# EAGLE library part TSW-D-76 (library con-samtec-tsw)
HEADER
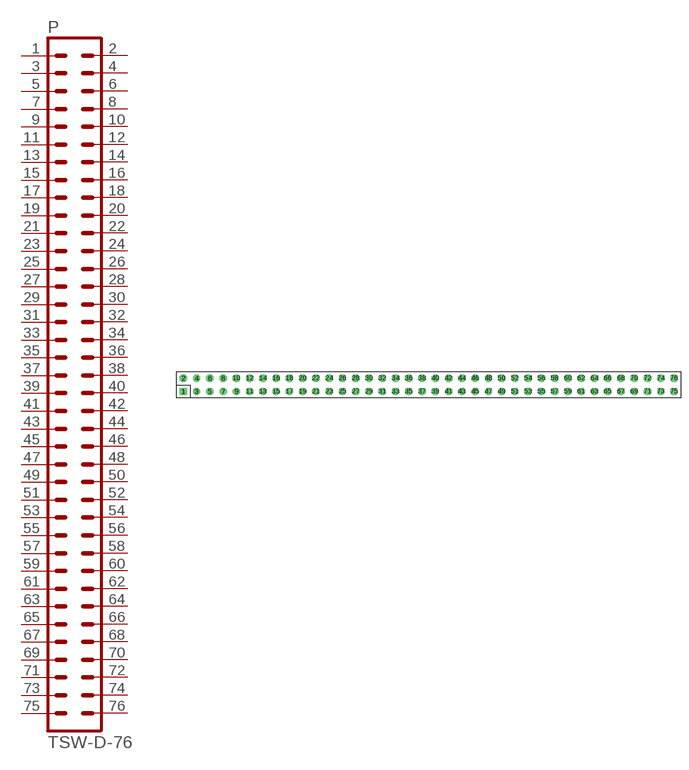
[diagram p125: symbol with the pads of TSW-D-76; footprint TSW-D-76]

Designator prefix P

## TSW-D-76  [TSW-D-76]
1  1  pas
2  2  pas
3  3  pas
4  4  pas
5  5  pas
6  6  pas
7  7  pas
8  8  pas
9  9  pas
10  10  pas
11  11  pas
12  12  pas
13  13  pas
14  14  pas
15  15  pas
16  16  pas
17  17  pas
18  18  pas
19  19  pas
20  20  pas
21  21  pas
22  22  pas
23  23  pas
24  24  pas
25  25  pas
26  26  pas
27  27  pas
28  28  pas
29  29  pas
30  30  pas
31  31  pas
32  32  pas
33  33  pas
34  34  pas
35  35  pas
36  36  pas
37  37  pas
38  38  pas
39  39  pas
40  40  pas
41  41  pas
42  42  pas
43  43  pas
44  44  pas
45  45  pas
46  46  pas
47  47  pas
48  48  pas
49  49  pas
50  50  pas
51  51  pas
52  52  pas
53  53  pas
54  54  pas
55  55  pas
56  56  pas
57  57  pas
58  58  pas
59  59  pas
60  60  pas
61  61  pas
62  62  pas
63  63  pas
64  64  pas
65  65  pas
66  66  pas
67  67  pas
68  68  pas
69  69  pas
70  70  pas
71  71  pas
72  72  pas
73  73  pas
74  74  pas
75  75  pas
76  76  pas

## Footprint TSW-D-76 (pad centres in mm)
HEADER
drill 0.914 square: 1 -46.99,-1.27
drill 0.914 octagon: 2 -46.99,1.27; 3 -44.45,-1.27; 4 -44.45,1.27; 5 -41.91,-1.27; 6 -41.91,1.27; 7 -39.37,-1.27; 8 -39.37,1.27; 9 -36.83,-1.27; 10 -36.83,1.27; 11 -34.29,-1.27; 12 -34.29,1.27; 13 -31.75,-1.27; 14 -31.75,1.27; 15 -29.21,-1.27; 16 -29.21,1.27; 17 -26.67,-1.27; 18 -26.67,1.27; 19 -24.13,-1.27; 20 -24.13,1.27; 21 -21.59,-1.27; 22 -21.59,1.27; 23 -19.05,-1.27; 24 -19.05,1.27; 25 -16.51,-1.27; 26 -16.51,1.27; 27 -13.97,-1.27; 28 -13.97,1.27; 29 -11.43,-1.27; 30 -11.43,1.27; 31 -8.89,-1.27; 32 -8.89,1.27; 33 -6.35,-1.27; 34 -6.35,1.27; 35 -3.81,-1.27; 36 -3.81,1.27; 37 -1.27,-1.27; 38 -1.27,1.27; 39 1.27,-1.27; 40 1.27,1.27; 41 3.81,-1.27; 42 3.81,1.27; 43 6.35,-1.27; 44 6.35,1.27; 45 8.89,-1.27; 46 8.89,1.27; 47 11.43,-1.27; 48 11.43,1.27; 49 13.97,-1.27; 50 13.97,1.27; 51 16.51,-1.27; 52 16.51,1.27; 53 19.05,-1.27; 54 19.05,1.27; 55 21.59,-1.27; 56 21.59,1.27; 57 24.13,-1.27; 58 24.13,1.27; 59 26.67,-1.27; 60 26.67,1.27; 61 29.21,-1.27; 62 29.21,1.27; 63 31.75,-1.27; 64 31.75,1.27; 65 34.29,-1.27; 66 34.29,1.27; 67 36.83,-1.27; 68 36.83,1.27; 69 39.37,-1.27; 70 39.37,1.27; 71 41.91,-1.27; 72 41.91,1.27; 73 44.45,-1.27; 74 44.45,1.27; 75 46.99,-1.27; 76 46.99,1.27